# EAGLE library part L2034-T (library ABI-LCD)
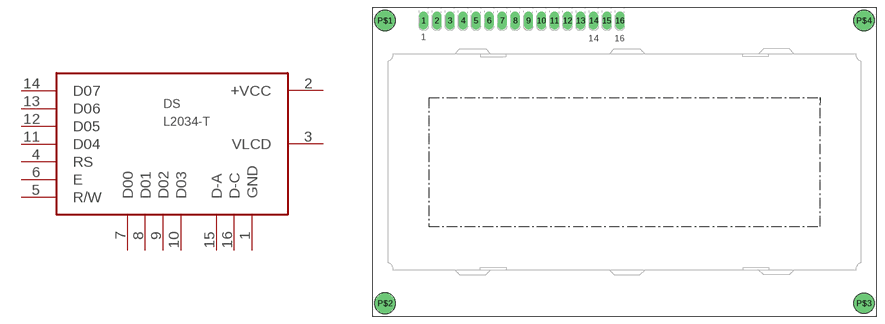
[diagram p4: symbol with the pads of L2034-T; footprint L2034-T]

Designator prefix DS

## L2034-T  [L2034-T]
1  GND
2  +VCC
3  VLCD
4  RS
5  R/W
6  E
7  D00
8  D01
9  D02
10  D03
11  D04
12  D05
13  D06
14  D07
15  D-A
16  D-C

## Footprint L2034-T (pad centres in mm)
drill 1.016 pad 1.778 long: 1 -38.108,27.947; 2 -35.568,27.947; 3 -33.028,27.947; 4 -30.488,27.947; 5 -27.948,27.947; 6 -25.408,27.947; 7 -22.868,27.947; 8 -20.328,27.947; 9 -17.788,27.947; 10 -15.248,27.947; 11 -12.708,27.947; 12 -10.168,27.947; 13 -7.628,27.947; 14 -5.088,27.947; 15 -2.548,27.947; 16 -0.008,27.947
drill 2.54 pad 3.81 round: P$1 -45.605,27.937; P$2 -45.595,-27.053; P$3 47.415,-27.053; P$4 47.405,27.947